# EAGLE library part G6B-2 (library SDSURocket-Electromechanical)
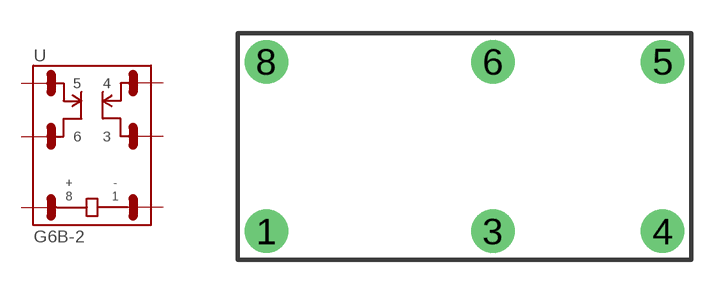
[diagram p0: symbol with the pads of G6B-2; footprint G6B-2]

Designator prefix -

## G6B-2014P-US  [G6B-2]
1  1
3  3
4  4
5  5
6  6
8  8

## Footprint G6B-2 (pad centres in mm)
drill 1.3: 1 -8.89,-3.81; 3 1.27,-3.81; 4 8.89,-3.81; 5 8.89,3.81; 6 1.27,3.81; 8 -8.89,3.81